# Altium footprint library PLD2-10-EDGE.PcbLib: 1 footprints
Each footprint in its own frame and in the unit in brackets; x right, y up, seen from the top. Pads: shape width x height; smd on the part's side, far side on the other; paste and mask are expansions set on the pad; w line width, h text height; cw(c..) or ccw(c..) is an arc to the next point about the centre after c.
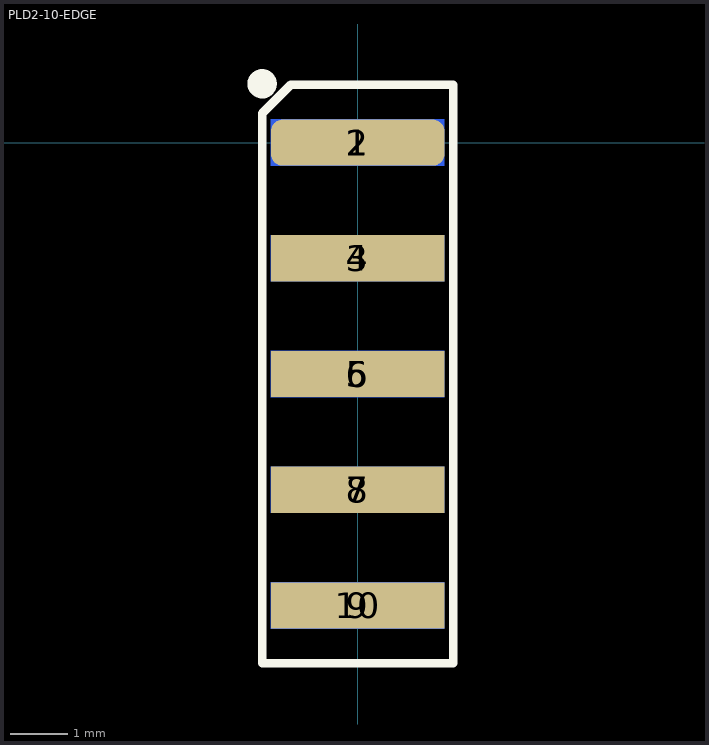
[diagram p0: the footprint, top view; thin cyan lines are the x and y axes]

## PLD2-10-EDGE [mm]
pads (10):
  rrect50% 3x0.8 smd: 1(0,0)
  rect 3x0.8 smd far side: 2(0,0) 4(0,-2) 6(0,-4) 8(0,-6) 10(0,-8)
  rect 3x0.8 smd: 3(0,-2) 5(0,-4) 7(0,-6) 9(0,-8)
Top Overlay:
  circle w0.254: c-1.651,1.016 r0.127
  lines w0.15: -1.651,-9 -1.651,0.508 -1.159,1 1.651,1 1.651,-9 -1.651,-9
3D body "User Library-PLD2-10.step": height 1.7, standoff -2.9, extent -0.722,-9.001 7.278,0.999